# Altium integrated library EEUTA1H331SB.IntLib: 1 symbol
Pins are listed as number, name and electrical type; pins without a type are passive.

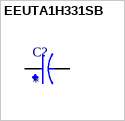
[diagram p0: symbol EEUTA1H331SB]

## EEUTA1H331SB
designator C?
CAP ALUM 330UF 20% 50V RADIAL; MP: EEU-TA1H331SB; MF: Panasonic; SnapEDA_Link: https://www.snapeda.com/parts/EEU-TA1H331SB/Panasonic/view-part/?ref=snap; Availability: In Stock; Purchase-URL: https://pricing.snapeda.com/search/part/EEU-TA1H331SB/?ref=eda; Check_prices: https://www.snapeda.com/parts/EEU-TA1H331SB/Panasonic/view-part/?ref=eda; Package: RADIAL-2 Panasonic; Price: None; Value: *
footprint CAPPRD750W80D1600H1500
pins: N, P